# EAGLE library part BQ501210 (library BB8)
S-PVQFN-N64 package for TI's BQ501210 wireless power transmitter manager.
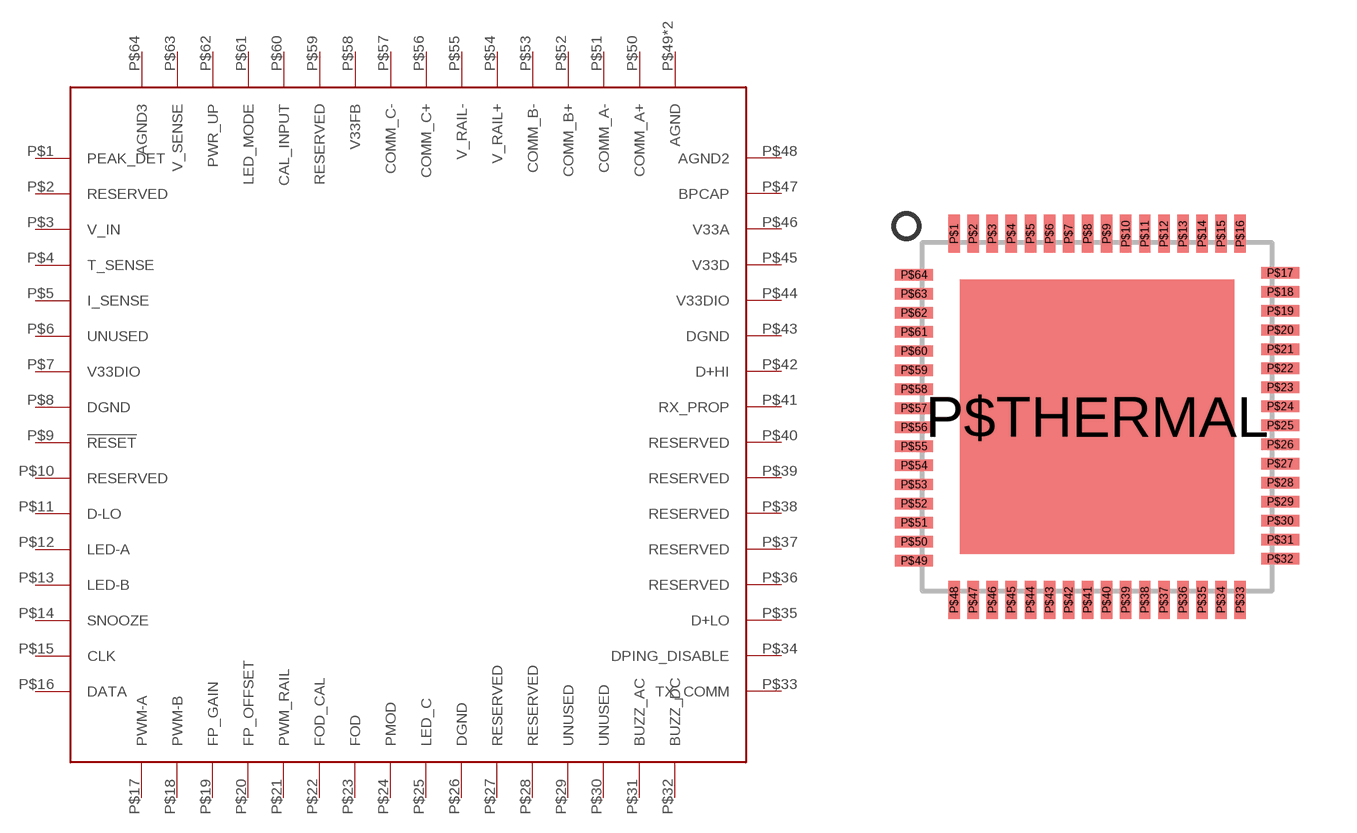
[diagram p6: symbol with the pads of S-PVQFN-N64; footprint S-PVQFN-N64]

Designator prefix U

## BQ501210  [S-PVQFN-N64]
P$1  PEAK_DET
P$2  RESERVED
P$3  V_IN
P$4  T_SENSE
P$5  I_SENSE
P$6  UNUSED
P$7  V33DIO
P$8  DGND
P$9  !RESET
P$10  RESERVED
P$11  D-LO
P$12  LED-A
P$13  LED-B
P$14  SNOOZE
P$15  CLK
P$16  DATA
P$17  PWM-A
P$18  PWM-B
P$19  FP_GAIN
P$20  FP_OFFSET
P$21  PWM_RAIL
P$22  FOD_CAL
P$23  FOD
P$24  PMOD
P$25  LED_C
P$26  DGND
P$27  RESERVED
P$28  RESERVED
P$29  UNUSED
P$30  UNUSED
P$31  BUZZ_AC
P$32  BUZZ_DC
P$33  TX_COMM
P$34  DPING_DISABLE
P$35  D+LO
P$36  RESERVED
P$37  RESERVED
P$38  RESERVED
P$39  RESERVED
P$40  RESERVED
P$41  RX_PROP
P$42  D+HI
P$43  DGND
P$44  V33DIO
P$45  V33D
P$46  V33A
P$47  BPCAP
P$48  AGND2
P$49  AGND
P$50  COMM_A+
P$51  COMM_A-
P$52  COMM_B+
P$53  COMM_B-
P$54  V_RAIL+
P$55  V_RAIL-
P$56  COMM_C+
P$57  COMM_C-
P$58  V33FB
P$59  RESERVED
P$60  CAL_INPUT
P$61  LED_MODE
P$62  PWR_UP
P$63  V_SENSE
P$64  AGND3
P$THERMAL  AGND

## Footprint S-PVQFN-N64 (pad centres in mm)
smd 0.3 x 1: P$1 -3.75,4.8; P$2 -3.25,4.8; P$3 -2.75,4.8; P$4 -2.25,4.8; P$5 -1.75,4.8; P$6 -1.25,4.8; P$7 -0.75,4.8; P$8 -0.25,4.8; P$9 0.25,4.8; P$10 0.75,4.8; P$11 1.25,4.8; P$12 1.75,4.8; P$13 2.25,4.8; P$14 2.75,4.8; P$15 3.25,4.8; P$16 3.75,4.8; P$33 3.75,-4.8; P$34 3.25,-4.8; P$35 2.75,-4.8; P$36 2.25,-4.8; P$37 1.75,-4.8; P$38 1.25,-4.8; P$39 0.75,-4.8; P$40 0.25,-4.8; P$41 -0.25,-4.8; P$42 -0.75,-4.8; P$43 -1.25,-4.8; P$44 -1.75,-4.8; P$45 -2.25,-4.8; P$46 -2.75,-4.8; P$47 -3.25,-4.8; P$48 -3.75,-4.8
smd 1 x 0.3: P$17 4.8,3.775; P$18 4.8,3.275; P$19 4.8,2.775; P$20 4.8,2.275; P$21 4.8,1.775; P$22 4.8,1.275; P$23 4.8,0.775; P$24 4.8,0.275; P$25 4.8,-0.225; P$26 4.8,-0.725; P$27 4.8,-1.225; P$28 4.8,-1.725; P$29 4.8,-2.225; P$30 4.8,-2.725; P$31 4.8,-3.225; P$32 4.8,-3.725; P$49 -4.8,-3.775; P$50 -4.8,-3.275; P$51 -4.8,-2.775; P$52 -4.8,-2.275; P$53 -4.8,-1.775; P$54 -4.8,-1.275; P$55 -4.8,-0.775; P$56 -4.8,-0.275; P$57 -4.8,0.225; P$58 -4.8,0.725; P$59 -4.8,1.225; P$60 -4.8,1.725; P$61 -4.8,2.225; P$62 -4.8,2.725; P$63 -4.8,3.225; P$64 -4.8,3.725
smd 7.2 x 7.2: P$THERMAL 0,0